# Altium schematic symbol library crystals_oscillators.SCHLIB: 1 symbol
Pins are listed as number, name and electrical type; pins without a type are passive.

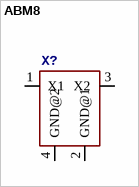
[diagram p0: symbol ABM8]

## ABM8
designator X?
footprint OSC_CMD_32_25
pins: 1 X1, 2 GND@1, 3 X2, 4 GND@2